# EAGLE library part FABO-NANO (library FaBo-Template)
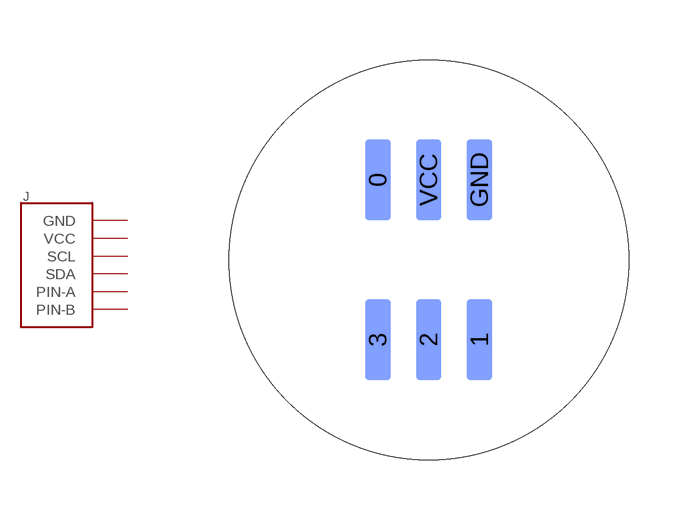
[diagram p0: symbol with the pads of FABO-NANO; footprint FABO-NANO]

Designator prefix J

## FABO-NANO  [FABO-NANO]
0  SCL
1  SDA
2  PIN-A
3  PIN-B
GND  GND
VCC  VCC

## Footprint FABO-NANO (pad centres in mm)
smd 0.635 x 2.032 bottom: 0 -1.27,2; 1 1.27,-2; 2 0,-2; 3 -1.27,-2; GND 1.27,2; VCC 0,2